# Altium footprint library footprints.PCBLIB: 194 footprints (part 3 of 13)
Each footprint in its own frame and in the unit in brackets; x right, y up, seen from the top. Pads: shape width x height; smd on the part's side, far side on the other; paste and mask are expansions set on the pad; w line width, h text height; cw(c..) or ccw(c..) is an arc to the next point about the centre after c.
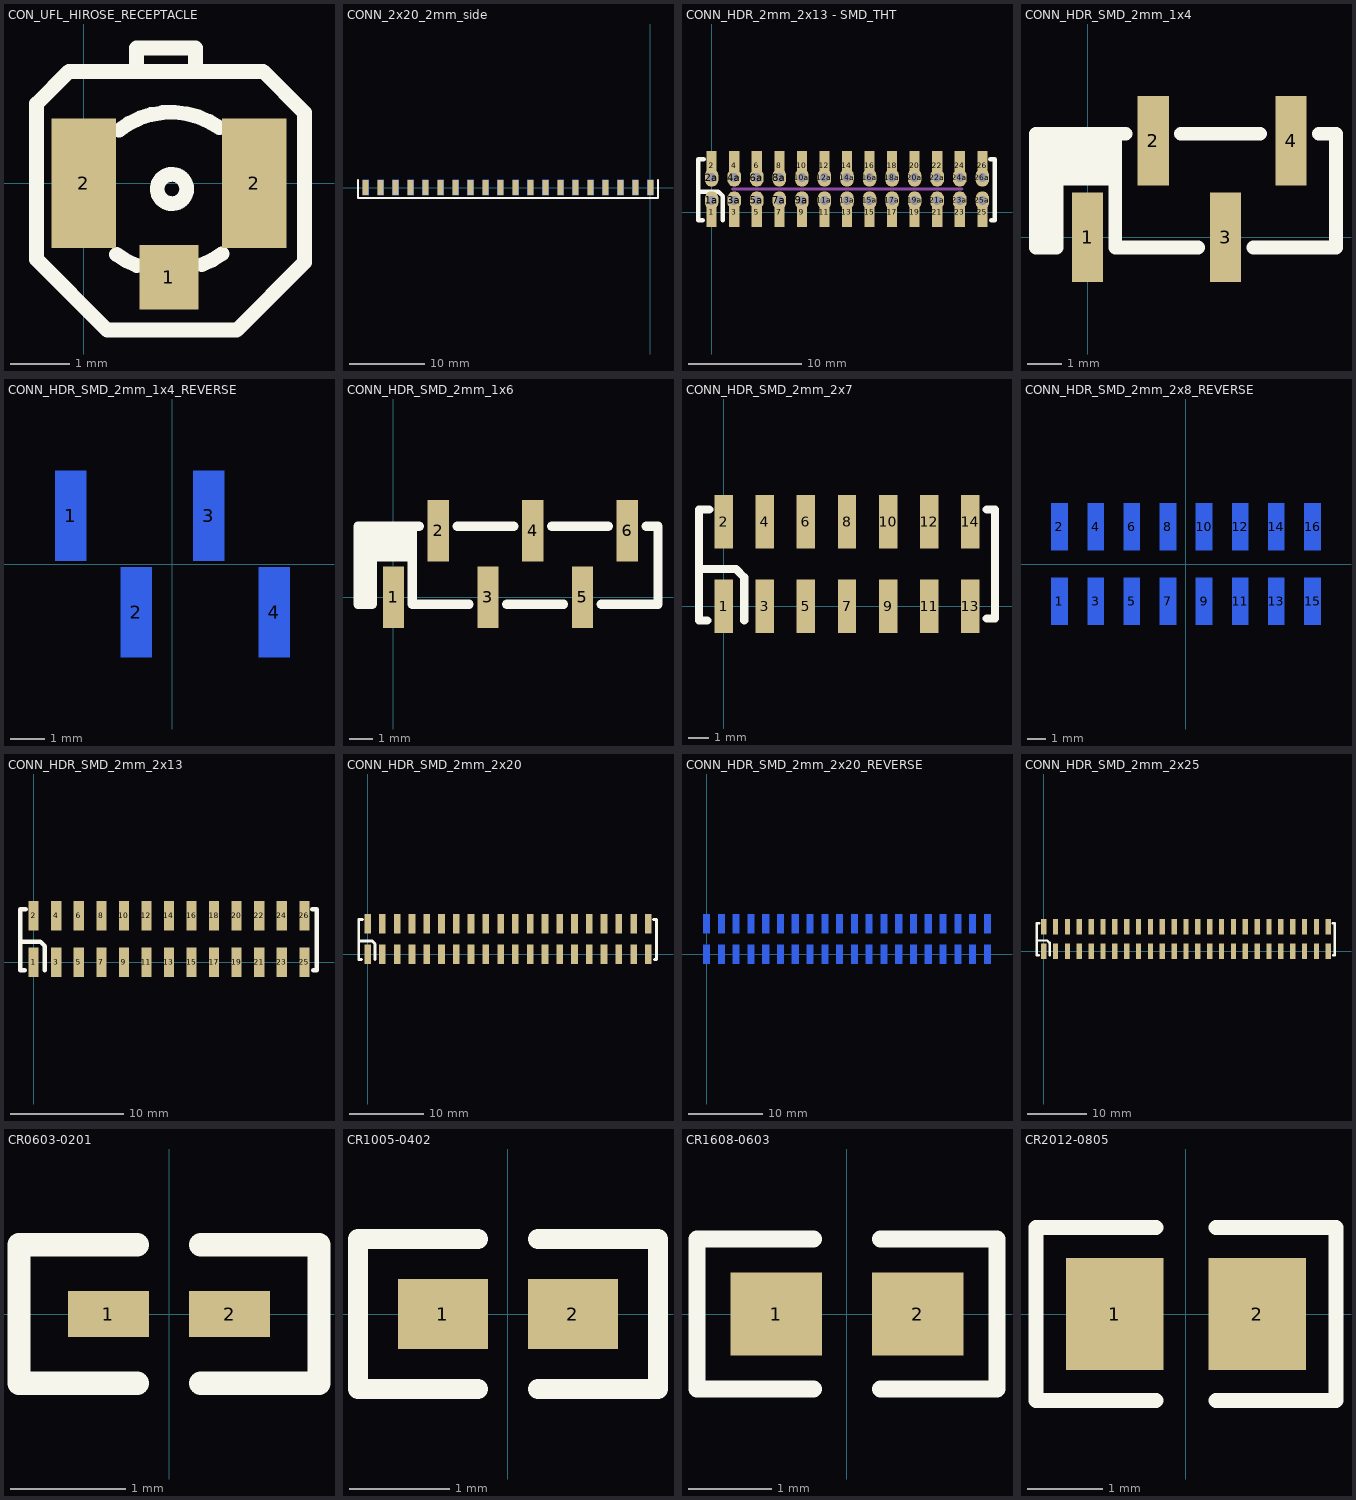
[diagram p2: the footprints below, top view; thin cyan lines are the x and y axes]

## CON_UFL_HIROSE_RECEPTACLE [mm]
pads (3):
  rect 1x1.1 smd: 1(1.45,-1.6)
  rect 1.1x2.2 smd: 2(0,0) 2(2.9,0)
Top Overlay:
  circle w0.25: c1.5,-0.1 r0.25
  lines w0.25: 0.559,-1.212 ccw(c1.373,-0.139) 0.9,-1.4 ; 0.6,0.9 cw(c1.481,-0.216) 2.307,0.941 ; 2.009,-1.388 ccw(c1.536,-0.127) 2.35,-1.2
  lines w0.254: 0.9,1.9 0.9,2.3 1.9,2.3 1.9,2 ; -0.8,-1.3 -0.8,1.35 -0.25,1.9 3.05,1.9 3.75,1.2 3.75,-1.35 2.6,-2.5 0.4,-2.5 -0.8,-1.3

## CONN_2x20_2mm_side [mm]
pads (40):
  rect 0.8x2 smd: 1(0,0) 3(-2,0) 5(-4,0) 7(-6,0) 9(-8,0) 11(-10,0) 13(-12,0) 15(-14,0) 17(-16,0) 19(-18,0) 21(-20,0) 23(-22,0) 25(-24,0) 27(-26,0) 29(-28,0) 31(-30,0) 33(-32,0) 35(-34,0) 37(-36,0) 39(-38,0)
  rect 0.8x2 smd far side: 2(0,0) 4(-2,0) 6(-4,0) 8(-6,0) 10(-8,0) 12(-10,0) 14(-12,0) 16(-14,0) 18(-16,0) 20(-18,0) 22(-20,0) 24(-22,0) 26(-24,0) 28(-26,0) 30(-28,0) 32(-30,0) 34(-32,0) 36(-34,0) 38(-36,0) 40(-38,0)
Top Overlay:
  lines w0.3: -39,1 -39,-1.4 1,-1.4 1,1

## CONN_HDR_2mm_2x13 - SMD_THT [mm]
pads (52):
  rect 0.9x2.6 smd: 1(0,0) 2(0,4.1) 3(2,0) 4(2,4.1) 5(4,0) 6(4,4.1) 7(6,0) 8(6,4.1) 9(8,0) 10(8,4.1) 11(10,0) 12(10,4.1) 13(12,0) 14(12,4.1) 15(14,0) 16(14,4.1) 17(16,0) 18(16,4.1) 19(18,0) 20(18,4.1) 21(20,0) 22(20,4.1) 23(22,0) 24(22,4.1) 25(24,0) 26(24,4.1)
  oval 1.2x1.6 hole 0.8: 1a(0,1.05) 2a(0,3.05) 3a(2,1.05) 4a(2,3.05) 5a(4,1.05) 6a(4,3.05) 7a(6,1.05) 8a(6,3.05) 9a(8,1.05) 10a(8,3.05) 11a(10,1.05) 12a(10,3.05) 13a(12,1.05) 14a(12,3.05) 15a(14,1.05) 16a(14,3.05) 17a(16,1.05) 18a(16,3.05) 19a(18,1.05) 20a(18,3.05) 21a(20,1.05) 22a(20,3.05) 23a(22,1.05) 24a(22,3.05) 25a(24,1.05) 26a(24,3.05)
Top Overlay:
  lines w0.4: -1.1,1.8 0.6,1.8 1,1.4 1,-0.7 ; -0.8,-0.7 -1.2,-0.7 -1.2,4.7 -0.7,4.7 ; 24.7,4.7 25.1,4.7 25.1,1.8 25.1,-0.7 24.8,-0.7
Mechanical 15:
  lines w0.256: 1.85,2.05 22.2,2.05

## CONN_HDR_SMD_2mm_1x4 [mm]
pads (4):
  rect 0.9x2.6 smd: 1(0,0) 2(1.9,2.8) 3(4,0) 4(5.9,2.8)
Top Overlay:
  rectangle: -1.3,1.5 0.7,2.8
  rectangle: -1.4,-0.3 -0.7,1.9
  lines w0.4: -0.9,-0.3 -1.5,-0.3 -1.5,3 1.1,3 ; 0.6,2.4 0.5,2.5 -1.3,2.5 -1.1,2.7 0.7,2.7 0.8,2.8 0.8,-0.3 3.2,-0.3 ; 2.7,3 5,3 ; 4.8,-0.3 7.2,-0.3 7.2,3 6.7,3

## CONN_HDR_SMD_2mm_1x4_REVERSE [mm]
pads (4):
  rect 0.9x2.6 smd far side: 1(-2.95,1.4) 2(-1.05,-1.4) 3(1.05,1.4) 4(2.95,-1.4)
Bottom Overlay:
  rectangle: -4.25,-1.4 -2.25,-0.1
  rectangle: -4.35,-0.5 -3.65,1.7
  lines w0.4: -3.85,1.7 -4.45,1.7 -4.45,-1.6 -1.85,-1.6 ; -2.35,-1 -2.45,-1.1 -4.25,-1.1 -4.05,-1.3 -2.25,-1.3 -2.15,-1.4 -2.15,1.7 0.25,1.7 ; -0.25,-1.6 2.05,-1.6 ; 1.85,1.7 4.25,1.7 4.25,-1.6 3.75,-1.6

## CONN_HDR_SMD_2mm_1x6 [mm]
pads (6):
  rect 0.9x2.6 smd: 1(0,0) 2(1.9,2.8) 3(4,0) 4(5.9,2.8) 5(8,0) 6(9.9,2.8)
Top Overlay:
  rectangle: -1.3,1.5 0.7,2.8
  rectangle: -1.4,-0.3 -0.7,1.9
  lines w0.4: -0.9,-0.3 -1.5,-0.3 -1.5,3 1.1,3 ; 0.6,2.4 0.5,2.5 -1.3,2.5 -1.1,2.7 0.7,2.7 0.8,2.8 0.8,-0.3 3.2,-0.3 ; 2.7,3 5.1,3 ; 4.8,-0.3 7.2,-0.3 ; 6.7,3 9.1,3 ; 8.8,-0.3 11.2,-0.3 11.2,3 10.7,3

## CONN_HDR_SMD_2mm_2x7 [mm]
pads (14):
  rect 0.9x2.6 smd: 1(0,0) 2(0,4.1) 3(2,0) 4(2,4.1) 5(4,0) 6(4,4.1) 7(6,0) 8(6,4.1) 9(8,0) 10(8,4.1) 11(10,0) 12(10,4.1) 13(12,0) 14(12,4.1)
Top Overlay:
  lines w0.4: -1.1,1.8 0.6,1.8 1,1.4 1,-0.7 ; -0.8,-0.7 -1.2,-0.7 -1.2,4.7 -0.7,4.7 ; 12.8,-0.6 13.2,-0.6 13.2,4.7 12.8,4.7

## CONN_HDR_SMD_2mm_2x8_REVERSE [mm]
pads (16):
  rect 0.9x2.6 smd far side: 1(-7,-2.05) 2(-7,2.05) 3(-5,-2.05) 4(-5,2.05) 5(-3,-2.05) 6(-3,2.05) 7(-1,-2.05) 8(-1,2.05) 9(1,-2.05) 10(1,2.05) 11(3,-2.05) 12(3,2.05) 13(5,-2.05) 14(5,2.05) 15(7,-2.05) 16(7,2.05)
Bottom Overlay:
  lines w0.4: -8.1,-0.25 -6.4,-0.25 -6,-0.65 -6,-2.75 ; -7.8,-2.75 -8.2,-2.75 -8.2,2.65 -7.7,2.65 ; 7.8,-2.65 8.2,-2.65 8.2,2.65 7.8,2.65

## CONN_HDR_SMD_2mm_2x13 [mm]
pads (26):
  rect 0.9x2.6 smd: 1(0,0) 2(0,4.1) 3(2,0) 4(2,4.1) 5(4,0) 6(4,4.1) 7(6,0) 8(6,4.1) 9(8,0) 10(8,4.1) 11(10,0) 12(10,4.1) 13(12,0) 14(12,4.1) 15(14,0) 16(14,4.1) 17(16,0) 18(16,4.1) 19(18,0) 20(18,4.1) 21(20,0) 22(20,4.1) 23(22,0) 24(22,4.1) 25(24,0) 26(24,4.1)
Top Overlay:
  lines w0.4: -1.1,1.8 0.6,1.8 1,1.4 1,-0.7 ; -0.8,-0.7 -1.2,-0.7 -1.2,4.7 -0.7,4.7 ; 24.7,4.7 25.1,4.7 25.1,1.8 25.1,-0.7 24.8,-0.7

## CONN_HDR_SMD_2mm_2x20 [mm]
pads (40):
  rect 0.9x2.6 smd: 1(0,0) 2(0,4.1) 3(2,0) 4(2,4.1) 5(4,0) 6(4,4.1) 7(6,0) 8(6,4.1) 9(8,0) 10(8,4.1) 11(10,0) 12(10,4.1) 13(12,0) 14(12,4.1) 15(14,0) 16(14,4.1) 17(16,0) 18(16,4.1) 19(18,0) 20(18,4.1) 21(20,0) 22(20,4.1) 23(22,0) 24(22,4.1) 25(24,0) 26(24,4.1) 27(26,0) 28(26,4.1) 29(28,0) 30(28,4.1) 31(30,0) 32(30,4.1) 33(32,0) 34(32,4.1) 35(34,0) 36(34,4.1) 37(36,0) 38(36,4.1) 39(38,0) 40(38,4.1)
Top Overlay:
  lines w0.4: -1.1,1.8 0.6,1.8 1,1.4 1,-0.7 ; -0.8,-0.7 -1.2,-0.7 -1.2,4.7 -0.7,4.7 ; 38.7,4.7 39.1,4.7 39.1,1.8 39.1,-0.7 38.8,-0.7

## CONN_HDR_SMD_2mm_2x20_REVERSE [mm]
pads (40):
  rect 0.9x2.6 smd far side: 1(0,0) 2(0,4.1) 3(2,0) 4(2,4.1) 5(4,0) 6(4,4.1) 7(6,0) 8(6,4.1) 9(8,0) 10(8,4.1) 11(10,0) 12(10,4.1) 13(12,0) 14(12,4.1) 15(14,0) 16(14,4.1) 17(16,0) 18(16,4.1) 19(18,0) 20(18,4.1) 21(20,0) 22(20,4.1) 23(22,0) 24(22,4.1) 25(24,0) 26(24,4.1) 27(26,0) 28(26,4.1) 29(28,0) 30(28,4.1) 31(30,0) 32(30,4.1) 33(32,0) 34(32,4.1) 35(34,0) 36(34,4.1) 37(36,0) 38(36,4.1) 39(38,0) 40(38,4.1)
Bottom Overlay:
  lines w0.4: -1.1,1.8 0.6,1.8 1,1.4 1,-0.7 ; -0.8,-0.7 -1.2,-0.7 -1.2,4.7 -0.7,4.7 ; 38.7,4.7 39.1,4.7 39.1,1.8 39.1,-0.7 38.8,-0.7

## CONN_HDR_SMD_2mm_2x25 [mm]
pads (50):
  rect 0.9x2.6 smd: 1(0,0) 2(0,4.1) 3(2,0) 4(2,4.1) 5(4,0) 6(4,4.1) 7(6,0) 8(6,4.1) 9(8,0) 10(8,4.1) 11(10,0) 12(10,4.1) 13(12,0) 14(12,4.1) 15(14,0) 16(14,4.1) 17(16,0) 18(16,4.1) 19(18,0) 20(18,4.1) 21(20,0) 22(20,4.1) 23(22,0) 24(22,4.1) 25(24,0) 26(24,4.1) 27(26,0) 28(26,4.1) 29(28,0) 30(28,4.1) 31(30,0) 32(30,4.1) 33(32,0) 34(32,4.1) 35(34,0) 36(34,4.1) 37(36,0) 38(36,4.1) 39(38,0) 40(38,4.1) 41(40,0) 42(40,4.1) 43(42,0) 44(42,4.1) 45(44,0) 46(44,4.1) 47(46,0) 48(46,4.1) 49(48,0) 50(48,4.1)
Top Overlay:
  lines w0.4: -1.1,1.8 0.6,1.8 1,1.4 1,-0.7 ; -0.8,-0.7 -1.2,-0.7 -1.2,4.7 -0.7,4.7 ; 48.7,4.7 49.1,4.7 49.1,1.8 49.1,-0.7 48.8,-0.7

## CR0603-0201 [mm]
pads (2):
  rect 0.7x0.4 smd: 1(-0.525,0) 2(0.525,0)
Top Overlay:
  lines w0.2: -0.275,-0.6 -1.3,-0.6 -1.3,0.6 -0.275,0.6 ; 0.275,-0.6 1.3,-0.6 1.3,0.6 0.275,0.6

## CR1005-0402 [mm]
pads (2):
  rect 0.9x0.7 smd: 1(-0.65,0) 2(0.65,0)
Top Overlay:
  lines w0.2: -0.3,-0.75 -1.5,-0.75 -1.5,0.75 -0.3,0.75 ; 0.3,-0.75 1.5,-0.75 1.5,0.75 0.3,0.75

## CR1608-0603 [mm]
pads (2):
  rect 1.1x1 smd: 1(-0.85,0) 2(0.85,0)
Top Overlay:
  lines w0.2: -0.4,-0.9 -1.8,-0.9 -1.8,0.9 -0.4,0.9 ; 0.4,-0.9 1.8,-0.9 1.8,0.9 0.4,0.9

## CR2012-0805 [mm]
pads (2):
  rect 1.3x1.5 smd: 1(-0.95,0) 2(0.95,0)
Top Overlay:
  lines w0.2: -0.4,-1.15 -2,-1.15 -2,1.15 -0.4,1.15 ; 0.4,-1.15 2,-1.15 2,1.15 0.4,1.15